# Altium integrated library cap.IntLib: 1 symbol
Pins are listed as number, name and electrical type; pins without a type are passive.

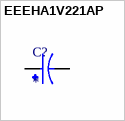
[diagram p0: symbol EEEHA1V221AP]

## EEEHA1V221AP
designator C?
220ÂµF 35V Aluminum Electrolytic Capacitors Radial, Can - SMD 1000 Hrs @ 105Â°C; MP: EEE-HA1V221AP; MF: Panasonic; SnapEDA_Link: https://www.snapeda.com/parts/EEE-HA1V221AP/Panasonic/view-part/?ref=snap; Package: RADIAL-2 Panasonic; Availability: In Stock; Price: None; Purchase-URL: https://pricing.snapeda.com/search/part/EEE-HA1V221AP/?ref=eda; Check_prices: https://www.snapeda.com/parts/EEE-HA1V221AP/Panasonic/view-part/?ref=eda; Value: *
footprint CAP_EEEHA1V221AP
pins: 1, 2